# Altium footprint library PcbLib1.PcbLib: 3 footprints
Each footprint in its own frame and in the unit in brackets; x right, y up, seen from the top. Pads: shape width x height; smd on the part's side, far side on the other; paste and mask are expansions set on the pad; w line width, h text height; cw(c..) or ccw(c..) is an arc to the next point about the centre after c.
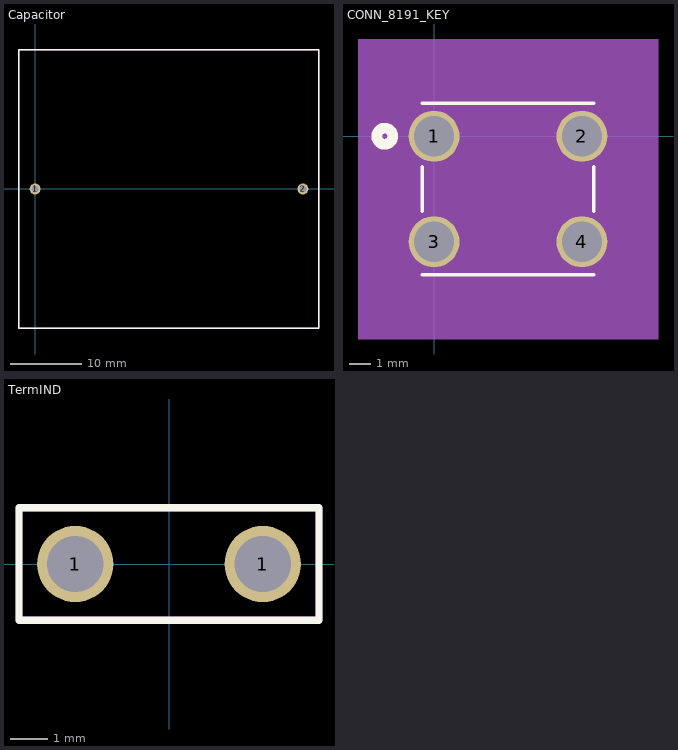
[diagram p0: the footprints below, top view; thin cyan lines are the x and y axes]

## Capacitor [mil]
pads (2):
  round 60 hole 39.37: 1(0,0) 2(1476.38,0)
Top Overlay:
  lines w7.87: -88.58,-767.72 -88.58,767.72 1564.96,767.72 1564.96,-767.72 -88.58,-767.72
Mechanical 29:
  lines w7.87: -88.58,-767.72 -88.58,767.72 1564.96,767.72 1564.96,-767.72 -88.58,-767.72
  text "'.Designator'" at 490.16,-291.34 h47.24

## CONN_8191_KEY [mil]
pads (4):
  round 95 hole 75 mask+0: 1(0,0) 2(276,0) 3(0,-197) 4(276,-197)
Top Overlay:
  circle w20: c-92,0 r15
  lines w6: -22,-258.5 298,-258.5 ; -22,-140.53 -22,-56.47 ; -22,61.5 298,61.5 ; 298,-140.53 298,-56.47
Bottom Overlay:
  circle w20: c-92,0 r15
Mechanical 5:
  region: -142,181.5 418,181.5 418,-378.5 -142,-378.5
Mechanical 13:
  circle w20: c0,75 r15
  lines w1: -17,-253.5 -17,56.5 293,56.5 293,-253.5 -17,-253.5
Mechanical 15:
  region: 333.5,66.5 -57.5,66.5 -57.5,-263.5 333.5,-263.5
  lines w6: -57.5,-263.5 333.5,-263.5 333.5,66.5 -57.5,66.5 -57.5,-263.5
3D body: height 10, standoff 0, extent 0,0 10,10

## TermIND [mil]
pads (2):
  round 80 hole 59.06: 1(-98.43,0) 1(98.43,0)
Top Overlay:
  lines w7.87: -157.48,-59.05 -157.48,59.06 157.48,59.06 157.48,-59.05 -157.48,-59.05
Mechanical 29:
  lines w7.87: -157.48,-59.05 -157.48,59.06 157.48,59.06 157.48,-59.05 -157.48,-59.05
  text "'.Designator'" at -262.13,98.62 h47.24